# Altium schematic symbol library Res_YAGEO_RC0603JR-0775KL_75kOhm.SchLib: 1 symbol
Pins are listed as number, name and electrical type; pins without a type are passive.

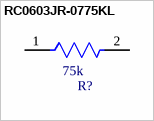
[diagram p0: symbol RC0603JR-0775KL]

## RC0603JR-0775KL
designator R?  (value not drawn)
pins: 1, 2
text: 75k